# Altium footprint library 691 233 710 0xx.PcbLib: 2 footprints
Each footprint in its own frame and in the unit in brackets; x right, y up, seen from the top. Pads: shape width x height; smd on the part's side, far side on the other; paste and mask are expansions set on the pad; w line width, h text height; cw(c..) or ccw(c..) is an arc to the next point about the centre after c.
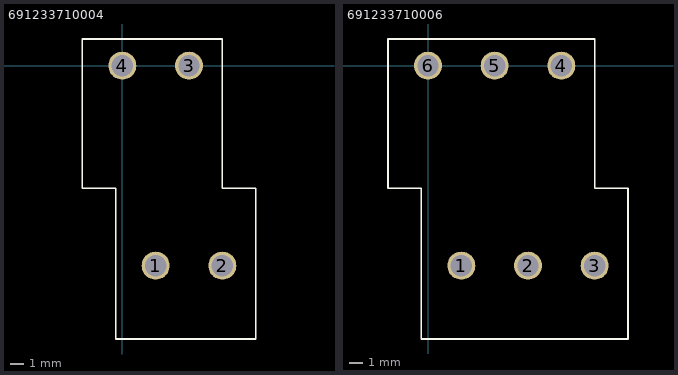
[diagram p0: the footprints below, top view; thin cyan lines are the x and y axes]

## 691233710004 [mm] "5,00mm - modular - 2 rows - Right - horizontal entry with rising cage clamp - 04p - h=31,5mm"
height 31.5
pads (4):
  round 2.1 hole 1.6: 1(2.5,-15) 2(7.5,-15) 3(5,0) 4(0,0)
Top Overlay:
  lines w0.127: -3,-9.2 -3,2 7.5,2 7.5,-9.2 10,-9.2 10,-20.5 -0.5,-20.5 -0.5,-9.2 -3,-9.2
3D body: height 31.52, standoff -4.98, extent -3,-20.5 10,2.1

## 691233710006 [mm] "5,00mm - modular - 2 rows - Right - horizontal entry with rising cage clamp - 06p - h=31,5mm"
height 31.5
pads (6):
  round 2.1 hole 1.6: 1(2.5,-15) 2(7.5,-15) 3(12.5,-15) 4(10,0) 5(5,0) 6(0,0)
Top Overlay:
  lines w0.127: -3,-9.2 -3,2 12.5,2 12.5,-9.2 15,-9.2 15,-20.5 -0.5,-20.5 -0.5,-9.2 -3,-9.2
3D body: height 31.52, standoff -4.98, extent -3,-20.5 15,2.1